# Altium footprint library qfp_footp.PcbLib: 36 footprints (part 4 of 4)
Each footprint in its own frame and in the unit in brackets; x right, y up, seen from the top. Pads: shape width x height; smd on the part's side, far side on the other; paste and mask are expansions set on the pad; w line width, h text height; cw(c..) or ccw(c..) is an arc to the next point about the centre after c.
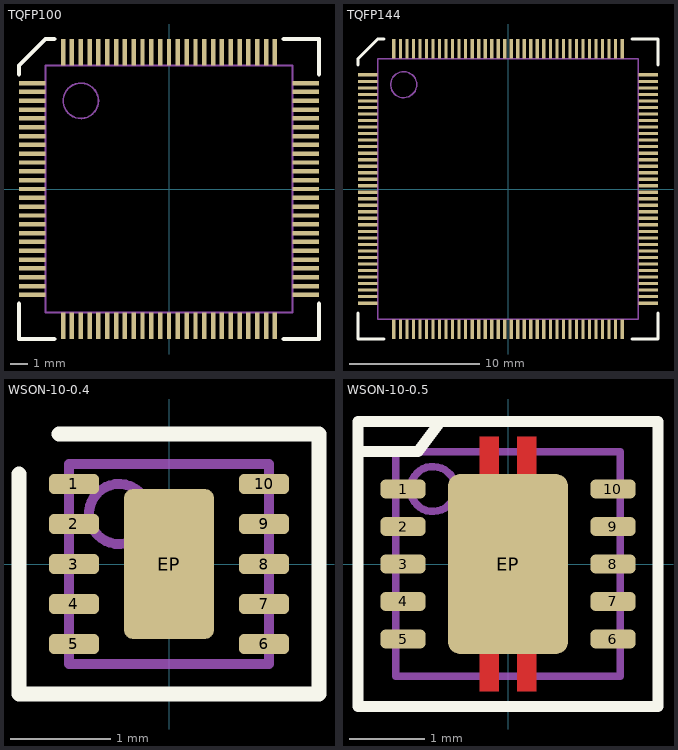
[diagram p3: the footprints below, top view; thin cyan lines are the x and y axes]

## TQFP100 [mm]
height 1.2
pads (100):
  rect 1.5x0.25 smd: 1(-7.75,6) 2(-7.75,5.5) 3(-7.75,5) 4(-7.75,4.5) 5(-7.75,4) 6(-7.75,3.5) 7(-7.75,3) 8(-7.75,2.5) 9(-7.75,2) 10(-7.75,1.5) 11(-7.75,1) 12(-7.75,0.5) 13(-7.75,0) 14(-7.75,-0.5) 15(-7.75,-1) 16(-7.75,-1.5) 17(-7.75,-2) 18(-7.75,-2.5) 19(-7.75,-3) 20(-7.75,-3.5) 21(-7.75,-4) 22(-7.75,-4.5) 23(-7.75,-5) 24(-7.75,-5.5) 25(-7.75,-6) 51(7.75,-6) 52(7.75,-5.5) 53(7.75,-5) 54(7.75,-4.5) 55(7.75,-4) 56(7.75,-3.5) 57(7.75,-3) 58(7.75,-2.5) 59(7.75,-2) 60(7.75,-1.5) 61(7.75,-1) 62(7.75,-0.5) 63(7.75,0) 64(7.75,0.5) 65(7.75,1) 66(7.75,1.5) 67(7.75,2) 68(7.75,2.5) 69(7.75,3) 70(7.75,3.5) 71(7.75,4) 72(7.75,4.5) 73(7.75,5) 74(7.75,5.5) 75(7.75,6)
  rect 0.25x1.5 smd: 26(-6,-7.75) 27(-5.5,-7.75) 28(-5,-7.75) 29(-4.5,-7.75) 30(-4,-7.75) 31(-3.5,-7.75) 32(-3,-7.75) 33(-2.5,-7.75) 34(-2,-7.75) 35(-1.5,-7.75) 36(-1,-7.75) 37(-0.5,-7.75) 38(0,-7.75) 39(0.5,-7.75) 40(1,-7.75) 41(1.5,-7.75) 42(2,-7.75) 43(2.5,-7.75) 44(3,-7.75) 45(3.5,-7.75) 46(4,-7.75) 47(4.5,-7.75) 48(5,-7.75) 49(5.5,-7.75) 50(6,-7.75) 76(6,7.75) 77(5.5,7.75) 78(5,7.75) 79(4.5,7.75) 80(4,7.75) 81(3.5,7.75) 82(3,7.75) 83(2.5,7.75) 84(2,7.75) 85(1.5,7.75) 86(1,7.75) 87(0.5,7.75) 88(0,7.75) 89(-0.5,7.75) 90(-1,7.75) 91(-1.5,7.75) 92(-2,7.75) 93(-2.5,7.75) 94(-3,7.75) 95(-3.5,7.75) 96(-4,7.75) 97(-4.5,7.75) 98(-5,7.75) 99(-5.5,7.75) 100(-6,7.75)
Top Overlay:
  lines w0.25: -8.5,-6.5 -8.5,-8.5 -6.5,-8.5 ; -8.5,6.5 -8.5,7 -7,8.5 -6.5,8.5 ; 6.5,-8.5 8.5,-8.5 8.5,-6.5 ; 6.5,8.5 8.5,8.5 8.5,6.5
Mechanical 1:
  circle w0.1: c-5,5 r1
  lines w0.1: -8,-6 -7,-6 ; -8,-5.5 -7,-5.5 ; -8,-5 -7,-5 ; -8,-4.5 -7,-4.5 ; -8,-4 -7,-4 ; -8,-3.5 -7,-3.5 ; -8,-3 -7,-3 ; -8,-2.5 -7,-2.5 ; -8,-2 -7,-2 ; -8,-1.5 -7,-1.5 ; -8,-1 -7,-1 ; -8,-0.5 -7,-0.5 ; -8,0 -7,0 ; -8,0.5 -7,0.5 ; -8,1 -7,1 ; -8,1.5 -7,1.5 ; -8,2 -7,2 ; -8,2.5 -7,2.5 ; -8,3 -7,3 ; -8,3.5 -7,3.5 ; -8,4 -7,4 ; -8,4.5 -7,4.5 ; -8,5 -7,5 ; -8,5.5 -7,5.5 ; -8,6 -7,6 ; -6,-8 -6,-7 ; -6,7 -6,8 ; -5.5,-8 -5.5,-7 ; -5.5,7 -5.5,8 ; -5,-8 -5,-7 ; -5,7 -5,8 ; -4.5,-8 -4.5,-7 ; -4.5,7 -4.5,8 ; -4,-8 -4,-7 ; -4,7 -4,8 ; -3.5,-8 -3.5,-7 ; -3.5,7 -3.5,8 ; -3,-8 -3,-7 ; -3,7 -3,8 ; -2.5,-8 -2.5,-7 ; -2.5,7 -2.5,8 ; -2,-8 -2,-7 ; -2,7 -2,8 ; -1.5,-8 -1.5,-7 ; -1.5,7 -1.5,8 ; -1,-8 -1,-7 ; -1,7 -1,8 ; -0.5,-8 -0.5,-7 ; -0.5,7 -0.5,8 ; 0,-8 0,-7 ; 0,7 0,8 ; 0.5,-8 0.5,-7 ; 0.5,7 0.5,8 ; 1,-8 1,-7 ; 1,7 1,8 ; 1.5,-8 1.5,-7 ; 1.5,7 1.5,8 ; 2,-8 2,-7 ; 2,7 2,8 ; 2.5,-8 2.5,-7 ; 2.5,7 2.5,8 ; 3,-8 3,-7 ; 3,7 3,8 ; 3.5,-8 3.5,-7 ; 3.5,7 3.5,8 ; 4,-8 4,-7 ; 4,7 4,8 ; 4.5,-8 4.5,-7 ; 4.5,7 4.5,8 ; 5,-8 5,-7 ; 5,7 5,8 ; 5.5,-8 5.5,-7 ; 5.5,7 5.5,8 ; 6,-8 6,-7 ; 6,7 6,8 ; 7,-6 8,-6 ; 7,-5.5 8,-5.5 ; 7,-5 8,-5 ; 7,-4.5 8,-4.5 ; 7,-4 8,-4 ; 7,-3.5 8,-3.5 ; 7,-3 8,-3 ; 7,-2.5 8,-2.5 ; 7,-2 8,-2 ; 7,-1.5 8,-1.5 ; 7,-1 8,-1 ; 7,-0.5 8,-0.5 ; 7,0 8,0 ; 7,0.5 8,0.5 ; 7,1 8,1 ; 7,1.5 8,1.5 ; 7,2 8,2 ; 7,2.5 8,2.5 ; 7,3 8,3 ; 7,3.5 8,3.5 ; 7,4 8,4 ; 7,4.5 8,4.5 ; 7,5 8,5 ; 7,5.5 8,5.5 ; 7,6 8,6 ; -7,-7 7,-7 7,7 -7,7 -7,-7
3D body: height 1.2, standoff 0.1, extent -7,-7 7,7
3D body: height 0.75, standoff 0, extent -8.1,5.9 -6.402,6.1
3D body: height 0.75, standoff 0, extent -8.1,5.4 -6.402,5.6
3D body: height 0.75, standoff 0, extent -8.1,4.4 -6.402,4.6
3D body: height 0.75, standoff 0, extent -8.1,4.9 -6.402,5.1
3D body: height 0.75, standoff 0, extent -8.1,2.9 -6.402,3.1
3D body: height 0.75, standoff 0, extent -8.1,2.4 -6.402,2.6
3D body: height 0.75, standoff 0, extent -8.1,3.4 -6.402,3.6
3D body: height 0.75, standoff 0, extent -8.1,3.9 -6.402,4.1
3D body: height 0.75, standoff 0, extent -8.1,0.9 -6.402,1.1
3D body: height 0.75, standoff 0, extent -8.1,0.4 -6.402,0.6
3D body: height 0.75, standoff 0, extent -8.1,1.4 -6.402,1.6
3D body: height 0.75, standoff 0, extent -8.1,1.9 -6.402,2.1
3D body: height 0.75, standoff 0, extent -8.1,-1.1 -6.402,-0.9
3D body: height 0.75, standoff 0, extent -8.1,-1.6 -6.402,-1.4
3D body: height 0.75, standoff 0, extent -8.1,-0.6 -6.402,-0.4
3D body: height 0.75, standoff 0, extent -8.1,-0.1 -6.402,0.1
3D body: height 0.75, standoff 0, extent -8.1,-3.1 -6.402,-2.9
3D body: height 0.75, standoff 0, extent -8.1,-3.6 -6.402,-3.4
3D body: height 0.75, standoff 0, extent -8.1,-2.6 -6.402,-2.4
3D body: height 0.75, standoff 0, extent -8.1,-2.1 -6.402,-1.9
3D body: height 0.75, standoff 0, extent -8.1,-5.1 -6.402,-4.9
3D body: height 0.75, standoff 0, extent -8.1,-5.6 -6.402,-5.4
3D body: height 0.75, standoff 0, extent -8.1,-4.6 -6.402,-4.4
3D body: height 0.75, standoff 0, extent -8.1,-4.1 -6.402,-3.9
3D body: height 0.75, standoff 0, extent -8.1,-6.1 -6.402,-5.9
3D body: height 0.75, standoff 0, extent 5.9,-8.1 6.1,-6.402
3D body: height 0.75, standoff 0, extent 3.9,-8.1 4.1,-6.402
3D body: height 0.75, standoff 0, extent 4.4,-8.1 4.6,-6.402
3D body: height 0.75, standoff 0, extent 5.4,-8.1 5.6,-6.402
3D body: height 0.75, standoff 0, extent 4.9,-8.1 5.1,-6.402
3D body: height 0.75, standoff 0, extent 1.9,-8.1 2.1,-6.402
3D body: height 0.75, standoff 0, extent 2.4,-8.1 2.6,-6.402
3D body: height 0.75, standoff 0, extent 3.4,-8.1 3.6,-6.402
3D body: height 0.75, standoff 0, extent 2.9,-8.1 3.1,-6.402
3D body: height 0.75, standoff 0, extent -0.1,-8.1 0.1,-6.402
3D body: height 0.75, standoff 0, extent 0.4,-8.1 0.6,-6.402
3D body: height 0.75, standoff 0, extent 1.4,-8.1 1.6,-6.402
3D body: height 0.75, standoff 0, extent 0.9,-8.1 1.1,-6.402
3D body: height 0.75, standoff 0, extent -2.1,-8.1 -1.9,-6.402
3D body: height 0.75, standoff 0, extent -1.6,-8.1 -1.4,-6.402
3D body: height 0.75, standoff 0, extent -0.6,-8.1 -0.4,-6.402
3D body: height 0.75, standoff 0, extent -1.1,-8.1 -0.9,-6.402
3D body: height 0.75, standoff 0, extent -4.1,-8.1 -3.9,-6.402
3D body: height 0.75, standoff 0, extent -3.6,-8.1 -3.4,-6.402
3D body: height 0.75, standoff 0, extent -2.6,-8.1 -2.4,-6.402
3D body: height 0.75, standoff 0, extent -3.1,-8.1 -2.9,-6.402
3D body: height 0.75, standoff 0, extent -5.1,-8.1 -4.9,-6.402
3D body: height 0.75, standoff 0, extent -4.6,-8.1 -4.4,-6.402
3D body: height 0.75, standoff 0, extent -5.6,-8.1 -5.4,-6.402
3D body: height 0.75, standoff 0, extent -6.1,-8.1 -5.9,-6.402
3D body: height 0.75, standoff 0, extent 6.402,5.9 8.1,6.1
3D body: height 0.75, standoff 0, extent 6.402,3.9 8.1,4.1
3D body: height 0.75, standoff 0, extent 6.402,4.4 8.1,4.6
3D body: height 0.75, standoff 0, extent 6.402,5.4 8.1,5.6
3D body: height 0.75, standoff 0, extent 6.402,4.9 8.1,5.1
3D body: height 0.75, standoff 0, extent 6.402,1.9 8.1,2.1
3D body: height 0.75, standoff 0, extent 6.402,2.4 8.1,2.6
3D body: height 0.75, standoff 0, extent 6.402,3.4 8.1,3.6
3D body: height 0.75, standoff 0, extent 6.402,2.9 8.1,3.1
3D body: height 0.75, standoff 0, extent 6.402,-0.1 8.1,0.1
3D body: height 0.75, standoff 0, extent 6.402,0.4 8.1,0.6
3D body: height 0.75, standoff 0, extent 6.402,1.4 8.1,1.6
3D body: height 0.75, standoff 0, extent 6.402,0.9 8.1,1.1
3D body: height 0.75, standoff 0, extent 6.402,-2.1 8.1,-1.9
3D body: height 0.75, standoff 0, extent 6.402,-1.6 8.1,-1.4
3D body: height 0.75, standoff 0, extent 6.402,-0.6 8.1,-0.4
3D body: height 0.75, standoff 0, extent 6.402,-1.1 8.1,-0.9
3D body: height 0.75, standoff 0, extent 6.402,-4.1 8.1,-3.9
3D body: height 0.75, standoff 0, extent 6.402,-3.6 8.1,-3.4
3D body: height 0.75, standoff 0, extent 6.402,-2.6 8.1,-2.4
3D body: height 0.75, standoff 0, extent 6.402,-3.1 8.1,-2.9
3D body: height 0.75, standoff 0, extent 6.402,-5.1 8.1,-4.9
3D body: height 0.75, standoff 0, extent 6.402,-4.6 8.1,-4.4
3D body: height 0.75, standoff 0, extent 6.402,-5.6 8.1,-5.4
3D body: height 0.75, standoff 0, extent 6.402,-6.1 8.1,-5.9
3D body: height 0.75, standoff 0, extent -6.1,6.402 -5.9,8.1
3D body: height 0.75, standoff 0, extent -4.1,6.402 -3.9,8.1
3D body: height 0.75, standoff 0, extent -4.6,6.402 -4.4,8.1
3D body: height 0.75, standoff 0, extent -5.6,6.402 -5.4,8.1
3D body: height 0.75, standoff 0, extent -5.1,6.402 -4.9,8.1
3D body: height 0.75, standoff 0, extent -2.1,6.402 -1.9,8.1
3D body: height 0.75, standoff 0, extent -2.6,6.402 -2.4,8.1
3D body: height 0.75, standoff 0, extent -3.6,6.402 -3.4,8.1
3D body: height 0.75, standoff 0, extent -3.1,6.402 -2.9,8.1
3D body: height 0.75, standoff 0, extent -0.1,6.402 0.1,8.1
3D body: height 0.75, standoff 0, extent -0.6,6.402 -0.4,8.1
3D body: height 0.75, standoff 0, extent -1.6,6.402 -1.4,8.1
3D body: height 0.75, standoff 0, extent -1.1,6.402 -0.9,8.1
3D body: height 0.75, standoff 0, extent 1.9,6.402 2.1,8.1
3D body: height 0.75, standoff 0, extent 1.4,6.402 1.6,8.1
3D body: height 0.75, standoff 0, extent 0.4,6.402 0.6,8.1
3D body: height 0.75, standoff 0, extent 0.9,6.402 1.1,8.1
3D body: height 0.75, standoff 0, extent 3.9,6.402 4.1,8.1
3D body: height 0.75, standoff 0, extent 3.4,6.402 3.6,8.1
3D body: height 0.75, standoff 0, extent 2.4,6.402 2.6,8.1
3D body: height 0.75, standoff 0, extent 2.9,6.402 3.1,8.1
3D body: height 0.75, standoff 0, extent 4.9,6.402 5.1,8.1
3D body: height 0.75, standoff 0, extent 4.4,6.402 4.6,8.1
3D body: height 0.75, standoff 0, extent 5.4,6.402 5.6,8.1
3D body: height 0.75, standoff 0, extent 5.9,6.402 6.1,8.1

## TQFP144 [mm]
height 1.2
pads (144):
  rect 1.5x0.25 smd: 1(-10.75,8.75) 2(-10.75,8.25) 3(-10.75,7.75) 4(-10.75,7.25) 5(-10.75,6.75) 6(-10.75,6.25) 7(-10.75,5.75) 8(-10.75,5.25) 9(-10.75,4.75) 10(-10.75,4.25) 11(-10.75,3.75) 12(-10.75,3.25) 13(-10.75,2.75) 14(-10.75,2.25) 15(-10.75,1.75) 16(-10.75,1.25) 17(-10.75,0.75) 18(-10.75,0.25) 19(-10.75,-0.25) 20(-10.75,-0.75) 21(-10.75,-1.25) 22(-10.75,-1.75) 23(-10.75,-2.25) 24(-10.75,-2.75) 25(-10.75,-3.25) 26(-10.75,-3.75) 27(-10.75,-4.25) 28(-10.75,-4.75) 29(-10.75,-5.25) 30(-10.75,-5.75) 31(-10.75,-6.25) 32(-10.75,-6.75) 33(-10.75,-7.25) 34(-10.75,-7.75) 35(-10.75,-8.25) 36(-10.75,-8.75) 73(10.75,-8.75) 74(10.75,-8.25) 75(10.75,-7.75) 76(10.75,-7.25) 77(10.75,-6.75) 78(10.75,-6.25) 79(10.75,-5.75) 80(10.75,-5.25) 81(10.75,-4.75) 82(10.75,-4.25) 83(10.75,-3.75) 84(10.75,-3.25) 85(10.75,-2.75) 86(10.75,-2.25) 87(10.75,-1.75) 88(10.75,-1.25) 89(10.75,-0.75) 90(10.75,-0.25) 91(10.75,0.25) 92(10.75,0.75) 93(10.75,1.25) 94(10.75,1.75) 95(10.75,2.25) 96(10.75,2.75) 97(10.75,3.25) 98(10.75,3.75) 99(10.75,4.25) 100(10.75,4.75) 101(10.75,5.25) 102(10.75,5.75) 103(10.75,6.25) 104(10.75,6.75) 105(10.75,7.25) 106(10.75,7.75) 107(10.75,8.25) 108(10.75,8.75)
  rect 0.25x1.5 smd: 37(-8.75,-10.75) 38(-8.25,-10.75) 39(-7.75,-10.75) 40(-7.25,-10.75) 41(-6.75,-10.75) 42(-6.25,-10.75) 43(-5.75,-10.75) 44(-5.25,-10.75) 45(-4.75,-10.75) 46(-4.25,-10.75) 47(-3.75,-10.75) 48(-3.25,-10.75) 49(-2.75,-10.75) 50(-2.25,-10.75) 51(-1.75,-10.75) 52(-1.25,-10.75) 53(-0.75,-10.75) 54(-0.25,-10.75) 55(0.25,-10.75) 56(0.75,-10.75) 57(1.25,-10.75) 58(1.75,-10.75) 59(2.25,-10.75) 60(2.75,-10.75) 61(3.25,-10.75) 62(3.75,-10.75) 63(4.25,-10.75) 64(4.75,-10.75) 65(5.25,-10.75) 66(5.75,-10.75) 67(6.25,-10.75) 68(6.75,-10.75) 69(7.25,-10.75) 70(7.75,-10.75) 71(8.25,-10.75) 72(8.75,-10.75) 109(8.75,10.75) 110(8.25,10.75) 111(7.75,10.75) 112(7.25,10.75) 113(6.75,10.75) 114(6.25,10.75) 115(5.75,10.75) 116(5.25,10.75) 117(4.75,10.75) 118(4.25,10.75) 119(3.75,10.75) 120(3.25,10.75) 121(2.75,10.75) 122(2.25,10.75) 123(1.75,10.75) 124(1.25,10.75) 125(0.75,10.75) 126(0.25,10.75) 127(-0.25,10.75) 128(-0.75,10.75) 129(-1.25,10.75) 130(-1.75,10.75) 131(-2.25,10.75) 132(-2.75,10.75) 133(-3.25,10.75) 134(-3.75,10.75) 135(-4.25,10.75) 136(-4.75,10.75) 137(-5.25,10.75) 138(-5.75,10.75) 139(-6.25,10.75) 140(-6.75,10.75) 141(-7.25,10.75) 142(-7.75,10.75) 143(-8.25,10.75) 144(-8.75,10.75)
Top Overlay:
  lines w0.25: -11.5,-9.5 -11.5,-11.5 -9.5,-11.5 ; -11.5,9.5 -11.5,10 -10,11.5 -9.5,11.5 ; 9.5,-11.5 11.5,-11.5 11.5,-9.5 ; 9.5,11.5 11.5,11.5 11.5,9.5
Mechanical 1:
  circle w0.1: c-8,8 r1
  lines w0.1: -11,-8.75 -10,-8.75 ; -11,-8.25 -10,-8.25 ; -11,-7.75 -10,-7.75 ; -11,-7.25 -10,-7.25 ; -11,-6.75 -10,-6.75 ; -11,-6.25 -10,-6.25 ; -11,-5.75 -10,-5.75 ; -11,-5.25 -10,-5.25 ; -11,-4.75 -10,-4.75 ; -11,-4.25 -10,-4.25 ; -11,-3.75 -10,-3.75 ; -11,-3.25 -10,-3.25 ; -11,-2.75 -10,-2.75 ; -11,-2.25 -10,-2.25 ; -11,-1.75 -10,-1.75 ; -11,-1.25 -10,-1.25 ; -11,-0.75 -10,-0.75 ; -11,-0.25 -10,-0.25 ; -11,0.25 -10,0.25 ; -11,0.75 -10,0.75 ; -11,1.25 -10,1.25 ; -11,1.75 -10,1.75 ; -11,2.25 -10,2.25 ; -11,2.75 -10,2.75 ; -11,3.25 -10,3.25 ; -11,3.75 -10,3.75 ; -11,4.25 -10,4.25 ; -11,4.75 -10,4.75 ; -11,5.25 -10,5.25 ; -11,5.75 -10,5.75 ; -11,6.25 -10,6.25 ; -11,6.75 -10,6.75 ; -11,7.25 -10,7.25 ; -11,7.75 -10,7.75 ; -11,8.25 -10,8.25 ; -11,8.75 -10,8.75 ; -8.75,-11 -8.75,-10 ; -8.75,10 -8.75,11 ; -8.25,-11 -8.25,-10 ; -8.25,10 -8.25,11 ; -7.75,-11 -7.75,-10 ; -7.75,10 -7.75,11 ; -7.25,-11 -7.25,-10 ; -7.25,10 -7.25,11 ; -6.75,-11 -6.75,-10 ; -6.75,10 -6.75,11 ; -6.25,-11 -6.25,-10 ; -6.25,10 -6.25,11 ; -5.75,-11 -5.75,-10 ; -5.75,10 -5.75,11 ; -5.25,-11 -5.25,-10 ; -5.25,10 -5.25,11 ; -4.75,-11 -4.75,-10 ; -4.75,10 -4.75,11 ; -4.25,-11 -4.25,-10 ; -4.25,10 -4.25,11 ; -3.75,-11 -3.75,-10 ; -3.75,10 -3.75,11 ; -3.25,-11 -3.25,-10 ; -3.25,10 -3.25,11 ; -2.75,-11 -2.75,-10 ; -2.75,10 -2.75,11 ; -2.25,-11 -2.25,-10 ; -2.25,10 -2.25,11 ; -1.75,-11 -1.75,-10 ; -1.75,10 -1.75,11 ; -1.25,-11 -1.25,-10 ; -1.25,10 -1.25,11 ; -0.75,-11 -0.75,-10 ; -0.75,10 -0.75,11 ; -0.25,-11 -0.25,-10 ; -0.25,10 -0.25,11 ; 0.25,-11 0.25,-10 ; 0.25,10 0.25,11 ; 0.75,-11 0.75,-10 ; 0.75,10 0.75,11 ; 1.25,-11 1.25,-10 ; 1.25,10 1.25,11 ; 1.75,-11 1.75,-10 ; 1.75,10 1.75,11 ; 2.25,-11 2.25,-10 ; 2.25,10 2.25,11 ; 2.75,-11 2.75,-10 ; 2.75,10 2.75,11 ; 3.25,-11 3.25,-10 ; 3.25,10 3.25,11 ; 3.75,-11 3.75,-10 ; 3.75,10 3.75,11 ; 4.25,-11 4.25,-10 ; 4.25,10 4.25,11 ; 4.75,-11 4.75,-10 ; 4.75,10 4.75,11 ; 5.25,-11 5.25,-10 ; 5.25,10 5.25,11 ; 5.75,-11 5.75,-10 ; 5.75,10 5.75,11 ; 6.25,-11 6.25,-10 ; 6.25,10 6.25,11 ; 6.75,-11 6.75,-10 ; 6.75,10 6.75,11 ; 7.25,-11 7.25,-10 ; 7.25,10 7.25,11 ; 7.75,-11 7.75,-10 ; 7.75,10 7.75,11 ; 8.25,-11 8.25,-10 ; 8.25,10 8.25,11 ; 8.75,-11 8.75,-10 ; 8.75,10 8.75,11 ; 10,-8.75 11,-8.75 ; 10,-8.25 11,-8.25 ; 10,-7.75 11,-7.75 ; 10,-7.25 11,-7.25 ; 10,-6.75 11,-6.75 ; 10,-6.25 11,-6.25 ; 10,-5.75 11,-5.75 ; 10,-5.25 11,-5.25 ; 10,-4.75 11,-4.75 ; 10,-4.25 11,-4.25 ; 10,-3.75 11,-3.75 ; 10,-3.25 11,-3.25 ; 10,-2.75 11,-2.75 ; 10,-2.25 11,-2.25 ; 10,-1.75 11,-1.75 ; 10,-1.25 11,-1.25 ; 10,-0.75 11,-0.75 ; 10,-0.25 11,-0.25 ; 10,0.25 11,0.25 ; 10,0.75 11,0.75 ; 10,1.25 11,1.25 ; 10,1.75 11,1.75 ; 10,2.25 11,2.25 ; 10,2.75 11,2.75 ; 10,3.25 11,3.25 ; 10,3.75 11,3.75 ; 10,4.25 11,4.25 ; 10,4.75 11,4.75 ; 10,5.25 11,5.25 ; 10,5.75 11,5.75 ; 10,6.25 11,6.25 ; 10,6.75 11,6.75 ; 10,7.25 11,7.25 ; 10,7.75 11,7.75 ; 10,8.25 11,8.25 ; 10,8.75 11,8.75 ; -10,-10 10,-10 10,10 -10,10 -10,-10
3D body: height 0.75, standoff 0, extent 8.66,9.4 8.86,11.098
3D body: height 0.75, standoff 0, extent 8.16,9.4 8.36,11.098
3D body: height 0.75, standoff 0, extent 7.66,9.4 7.86,11.098
3D body: height 0.75, standoff 0, extent 7.16,9.4 7.36,11.098
3D body: height 0.75, standoff 0, extent 5.16,9.4 5.36,11.098
3D body: height 0.75, standoff 0, extent 5.66,9.4 5.86,11.098
3D body: height 0.75, standoff 0, extent 6.16,9.4 6.36,11.098
3D body: height 0.75, standoff 0, extent 6.66,9.4 6.86,11.098
3D body: height 0.75, standoff 0, extent 3.16,9.4 3.36,11.098
3D body: height 0.75, standoff 0, extent 3.66,9.4 3.86,11.098
3D body: height 0.75, standoff 0, extent 4.16,9.4 4.36,11.098
3D body: height 0.75, standoff 0, extent 4.66,9.4 4.86,11.098
3D body: height 0.75, standoff 0, extent 1.16,9.4 1.36,11.098
3D body: height 0.75, standoff 0, extent 1.66,9.4 1.86,11.098
3D body: height 0.75, standoff 0, extent 2.16,9.4 2.36,11.098
3D body: height 0.75, standoff 0, extent 2.66,9.4 2.86,11.098
3D body: height 0.75, standoff 0, extent -0.84,9.4 -0.64,11.098
3D body: height 0.75, standoff 0, extent -0.34,9.4 -0.14,11.098
3D body: height 0.75, standoff 0, extent 0.16,9.4 0.36,11.098
3D body: height 0.75, standoff 0, extent 0.66,9.4 0.86,11.098
3D body: height 0.75, standoff 0, extent -2.84,9.4 -2.64,11.098
3D body: height 0.75, standoff 0, extent -2.34,9.4 -2.14,11.098
3D body: height 0.75, standoff 0, extent -1.84,9.4 -1.64,11.098
3D body: height 0.75, standoff 0, extent -1.34,9.4 -1.14,11.098
3D body: height 0.75, standoff 0, extent -4.84,9.4 -4.64,11.098
3D body: height 0.75, standoff 0, extent -4.34,9.4 -4.14,11.098
3D body: height 0.75, standoff 0, extent -3.84,9.4 -3.64,11.098
3D body: height 0.75, standoff 0, extent -3.34,9.4 -3.14,11.098
3D body: height 0.75, standoff 0, extent -6.84,9.4 -6.64,11.098
3D body: height 0.75, standoff 0, extent -6.34,9.4 -6.14,11.098
3D body: height 0.75, standoff 0, extent -5.84,9.4 -5.64,11.098
3D body: height 0.75, standoff 0, extent -5.34,9.4 -5.14,11.098
3D body: height 0.75, standoff 0, extent -8.84,9.4 -8.64,11.098
3D body: height 0.75, standoff 0, extent -8.34,9.4 -8.14,11.098
3D body: height 0.75, standoff 0, extent -7.84,9.4 -7.64,11.098
3D body: height 0.75, standoff 0, extent -7.34,9.4 -7.14,11.098
3D body: height 0.75, standoff 0, extent 9.4,-8.86 11.098,-8.66
3D body: height 0.75, standoff 0, extent 9.4,-8.36 11.098,-8.16
3D body: height 0.75, standoff 0, extent 9.4,-7.86 11.098,-7.66
3D body: height 0.75, standoff 0, extent 9.4,-7.36 11.098,-7.16
3D body: height 0.75, standoff 0, extent 9.4,-5.36 11.098,-5.16
3D body: height 0.75, standoff 0, extent 9.4,-5.86 11.098,-5.66
3D body: height 0.75, standoff 0, extent 9.4,-6.36 11.098,-6.16
3D body: height 0.75, standoff 0, extent 9.4,-6.86 11.098,-6.66
3D body: height 0.75, standoff 0, extent 9.4,-3.36 11.098,-3.16
3D body: height 0.75, standoff 0, extent 9.4,-3.86 11.098,-3.66
3D body: height 0.75, standoff 0, extent 9.4,-4.36 11.098,-4.16
3D body: height 0.75, standoff 0, extent 9.4,-4.86 11.098,-4.66
3D body: height 0.75, standoff 0, extent 9.4,-1.36 11.098,-1.16
3D body: height 0.75, standoff 0, extent 9.4,-1.86 11.098,-1.66
3D body: height 0.75, standoff 0, extent 9.4,-2.36 11.098,-2.16
3D body: height 0.75, standoff 0, extent 9.4,-2.86 11.098,-2.66
3D body: height 0.75, standoff 0, extent 9.4,0.64 11.098,0.84
3D body: height 0.75, standoff 0, extent 9.4,0.14 11.098,0.34
3D body: height 0.75, standoff 0, extent 9.4,-0.36 11.098,-0.16
3D body: height 0.75, standoff 0, extent 9.4,-0.86 11.098,-0.66
3D body: height 0.75, standoff 0, extent 9.4,2.64 11.098,2.84
3D body: height 0.75, standoff 0, extent 9.4,2.14 11.098,2.34
3D body: height 0.75, standoff 0, extent 9.4,1.64 11.098,1.84
3D body: height 0.75, standoff 0, extent 9.4,1.14 11.098,1.34
3D body: height 0.75, standoff 0, extent 9.4,4.64 11.098,4.84
3D body: height 0.75, standoff 0, extent 9.4,4.14 11.098,4.34
3D body: height 0.75, standoff 0, extent 9.4,3.64 11.098,3.84
3D body: height 0.75, standoff 0, extent 9.4,3.14 11.098,3.34
3D body: height 0.75, standoff 0, extent 9.4,6.64 11.098,6.84
3D body: height 0.75, standoff 0, extent 9.4,6.14 11.098,6.34
3D body: height 0.75, standoff 0, extent 9.4,5.64 11.098,5.84
3D body: height 0.75, standoff 0, extent 9.4,5.14 11.098,5.34
3D body: height 0.75, standoff 0, extent 9.4,8.64 11.098,8.84
3D body: height 0.75, standoff 0, extent 9.4,8.14 11.098,8.34
3D body: height 0.75, standoff 0, extent 9.4,7.64 11.098,7.84
3D body: height 0.75, standoff 0, extent 9.4,7.14 11.098,7.34
3D body: height 0.75, standoff 0, extent -8.86,-11.098 -8.66,-9.4
3D body: height 0.75, standoff 0, extent -8.36,-11.098 -8.16,-9.4
3D body: height 0.75, standoff 0, extent -7.86,-11.098 -7.66,-9.4
3D body: height 0.75, standoff 0, extent -7.36,-11.098 -7.16,-9.4
3D body: height 0.75, standoff 0, extent -5.36,-11.098 -5.16,-9.4
3D body: height 0.75, standoff 0, extent -5.86,-11.098 -5.66,-9.4
3D body: height 0.75, standoff 0, extent -6.36,-11.098 -6.16,-9.4
3D body: height 0.75, standoff 0, extent -6.86,-11.098 -6.66,-9.4
3D body: height 0.75, standoff 0, extent -3.36,-11.098 -3.16,-9.4
3D body: height 0.75, standoff 0, extent -3.86,-11.098 -3.66,-9.4
3D body: height 0.75, standoff 0, extent -4.36,-11.098 -4.16,-9.4
3D body: height 0.75, standoff 0, extent -4.86,-11.098 -4.66,-9.4
3D body: height 0.75, standoff 0, extent -1.36,-11.098 -1.16,-9.4
3D body: height 0.75, standoff 0, extent -1.86,-11.098 -1.66,-9.4
3D body: height 0.75, standoff 0, extent -2.36,-11.098 -2.16,-9.4
3D body: height 0.75, standoff 0, extent -2.86,-11.098 -2.66,-9.4
3D body: height 0.75, standoff 0, extent 0.64,-11.098 0.84,-9.4
3D body: height 0.75, standoff 0, extent 0.14,-11.098 0.34,-9.4
3D body: height 0.75, standoff 0, extent -0.36,-11.098 -0.16,-9.4
3D body: height 0.75, standoff 0, extent -0.86,-11.098 -0.66,-9.4
3D body: height 0.75, standoff 0, extent 2.64,-11.098 2.84,-9.4
3D body: height 0.75, standoff 0, extent 2.14,-11.098 2.34,-9.4
3D body: height 0.75, standoff 0, extent 1.64,-11.098 1.84,-9.4
3D body: height 0.75, standoff 0, extent 1.14,-11.098 1.34,-9.4
3D body: height 0.75, standoff 0, extent 4.64,-11.098 4.84,-9.4
3D body: height 0.75, standoff 0, extent 4.14,-11.098 4.34,-9.4
3D body: height 0.75, standoff 0, extent 3.64,-11.098 3.84,-9.4
3D body: height 0.75, standoff 0, extent 3.14,-11.098 3.34,-9.4
3D body: height 0.75, standoff 0, extent 6.64,-11.098 6.84,-9.4
3D body: height 0.75, standoff 0, extent 6.14,-11.098 6.34,-9.4
3D body: height 0.75, standoff 0, extent 5.64,-11.098 5.84,-9.4
3D body: height 0.75, standoff 0, extent 5.14,-11.098 5.34,-9.4
3D body: height 0.75, standoff 0, extent 8.64,-11.098 8.84,-9.4
3D body: height 0.75, standoff 0, extent 8.14,-11.098 8.34,-9.4
3D body: height 0.75, standoff 0, extent 7.64,-11.098 7.84,-9.4
3D body: height 0.75, standoff 0, extent 7.14,-11.098 7.34,-9.4
3D body: height 1.2, standoff 0.1, extent -10,-10 10,10
3D body: height 0.75, standoff 0, extent -11.098,-7.34 -9.4,-7.14
3D body: height 0.75, standoff 0, extent -11.098,-7.84 -9.4,-7.64
3D body: height 0.75, standoff 0, extent -11.098,-8.34 -9.4,-8.14
3D body: height 0.75, standoff 0, extent -11.098,-8.84 -9.4,-8.64
3D body: height 0.75, standoff 0, extent -11.098,-5.34 -9.4,-5.14
3D body: height 0.75, standoff 0, extent -11.098,-5.84 -9.4,-5.64
3D body: height 0.75, standoff 0, extent -11.098,-6.34 -9.4,-6.14
3D body: height 0.75, standoff 0, extent -11.098,-6.84 -9.4,-6.64
3D body: height 0.75, standoff 0, extent -11.098,-3.34 -9.4,-3.14
3D body: height 0.75, standoff 0, extent -11.098,-3.84 -9.4,-3.64
3D body: height 0.75, standoff 0, extent -11.098,-4.34 -9.4,-4.14
3D body: height 0.75, standoff 0, extent -11.098,-4.84 -9.4,-4.64
3D body: height 0.75, standoff 0, extent -11.098,-1.34 -9.4,-1.14
3D body: height 0.75, standoff 0, extent -11.098,-1.84 -9.4,-1.64
3D body: height 0.75, standoff 0, extent -11.098,-2.34 -9.4,-2.14
3D body: height 0.75, standoff 0, extent -11.098,-2.84 -9.4,-2.64
3D body: height 0.75, standoff 0, extent -11.098,0.66 -9.4,0.86
3D body: height 0.75, standoff 0, extent -11.098,0.16 -9.4,0.36
3D body: height 0.75, standoff 0, extent -11.098,-0.34 -9.4,-0.14
3D body: height 0.75, standoff 0, extent -11.098,-0.84 -9.4,-0.64
3D body: height 0.75, standoff 0, extent -11.098,2.66 -9.4,2.86
3D body: height 0.75, standoff 0, extent -11.098,2.16 -9.4,2.36
3D body: height 0.75, standoff 0, extent -11.098,1.66 -9.4,1.86
3D body: height 0.75, standoff 0, extent -11.098,1.16 -9.4,1.36
3D body: height 0.75, standoff 0, extent -11.098,4.66 -9.4,4.86
3D body: height 0.75, standoff 0, extent -11.098,4.16 -9.4,4.36
3D body: height 0.75, standoff 0, extent -11.098,3.66 -9.4,3.86
3D body: height 0.75, standoff 0, extent -11.098,3.16 -9.4,3.36
3D body: height 0.75, standoff 0, extent -11.098,6.66 -9.4,6.86
3D body: height 0.75, standoff 0, extent -11.098,6.16 -9.4,6.36
3D body: height 0.75, standoff 0, extent -11.098,5.66 -9.4,5.86
3D body: height 0.75, standoff 0, extent -11.098,5.16 -9.4,5.36
3D body: height 0.75, standoff 0, extent -11.098,7.16 -9.4,7.36
3D body: height 0.75, standoff 0, extent -11.098,7.66 -9.4,7.86
3D body: height 0.75, standoff 0, extent -11.098,8.16 -9.4,8.36
3D body: height 0.75, standoff 0, extent -11.098,8.66 -9.4,8.86

## WSON-10-0.4 [mm]
height 0.8
pads (11):
  rrect50% 0.5x0.2 smd: 1(-0.95,0.8) 2(-0.95,0.4) 3(-0.95,0) 4(-0.95,-0.4) 5(-0.95,-0.8) 6(0.95,-0.8) 7(0.95,-0.4) 8(0.95,0) 9(0.95,0.4) 10(0.95,0.8)
  rrect20% 0.9x1.5 smd paste-0.2: EP(0,0)
Top Overlay:
  lines w0.15: -1.5,0.9 -1.5,-1.3 1.5,-1.3 1.5,1.3 -1.1,1.3
Mechanical 1:
  circle w0.1: c-0.5,0.5 r0.3
  lines w0.1: -1,-1 -1,1 1,1 1,-1 -1,-1
3D body: height 0.8, standoff 0, extent -1,-1 1,1

## WSON-10-0.5 [mm]
height 1
pads (11):
  rrect50% 0.6x0.25 smd: 1(-1.4,1) 2(-1.4,0.5) 3(-1.4,0) 4(-1.4,-0.5) 5(-1.4,-1) 6(1.4,-1) 7(1.4,-0.5) 8(1.4,0) 9(1.4,0.5) 10(1.4,1)
  rrect20% 1.6x2.4 smd paste-1: EP(0,0)
Top Layer:
  region: 0.125,1.7 0.375,1.7 0.375,-1.7 0.125,-1.7
  region: -0.375,1.7 -0.125,1.7 -0.125,-1.7 -0.375,-1.7
Top Overlay:
  lines w0.15: -2,1.5 -1.2,1.5 -0.9,1.9 ; -2,-1.9 2,-1.9 2,1.9 -2,1.9 -2,-1.9
Top Paste:
  rectangle: -0.6,-1 0.6,-0.3
  rectangle: -0.6,0.3 0.6,1
  region: 0.125,1.7 0.375,1.7 0.375,1.35 0.125,1.35
  region: 0.125,-1.35 0.375,-1.35 0.375,-1.7 0.125,-1.7
  region: -0.375,-1.35 -0.125,-1.35 -0.125,-1.7 -0.375,-1.7
  region: -0.375,1.7 -0.125,1.7 -0.125,1.35 -0.375,1.35
Top Solder:
  rectangle: -0.45,-1.775 0.45,1.775
Mechanical 1:
  circle w0.1: c-1,1 r0.3
  lines w0.1: -1.5,-1.5 -1.5,1.5 1.5,1.5 1.5,-1.5 -1.5,-1.5
3D body: height 0.8, standoff 0, extent -1.5,-1.5 1.5,1.5